# Altium schematic symbol library 4.14 - FPC连接器.SchLib: 37 symbols
Pins are listed as number, name and electrical type; pins without a type are passive.

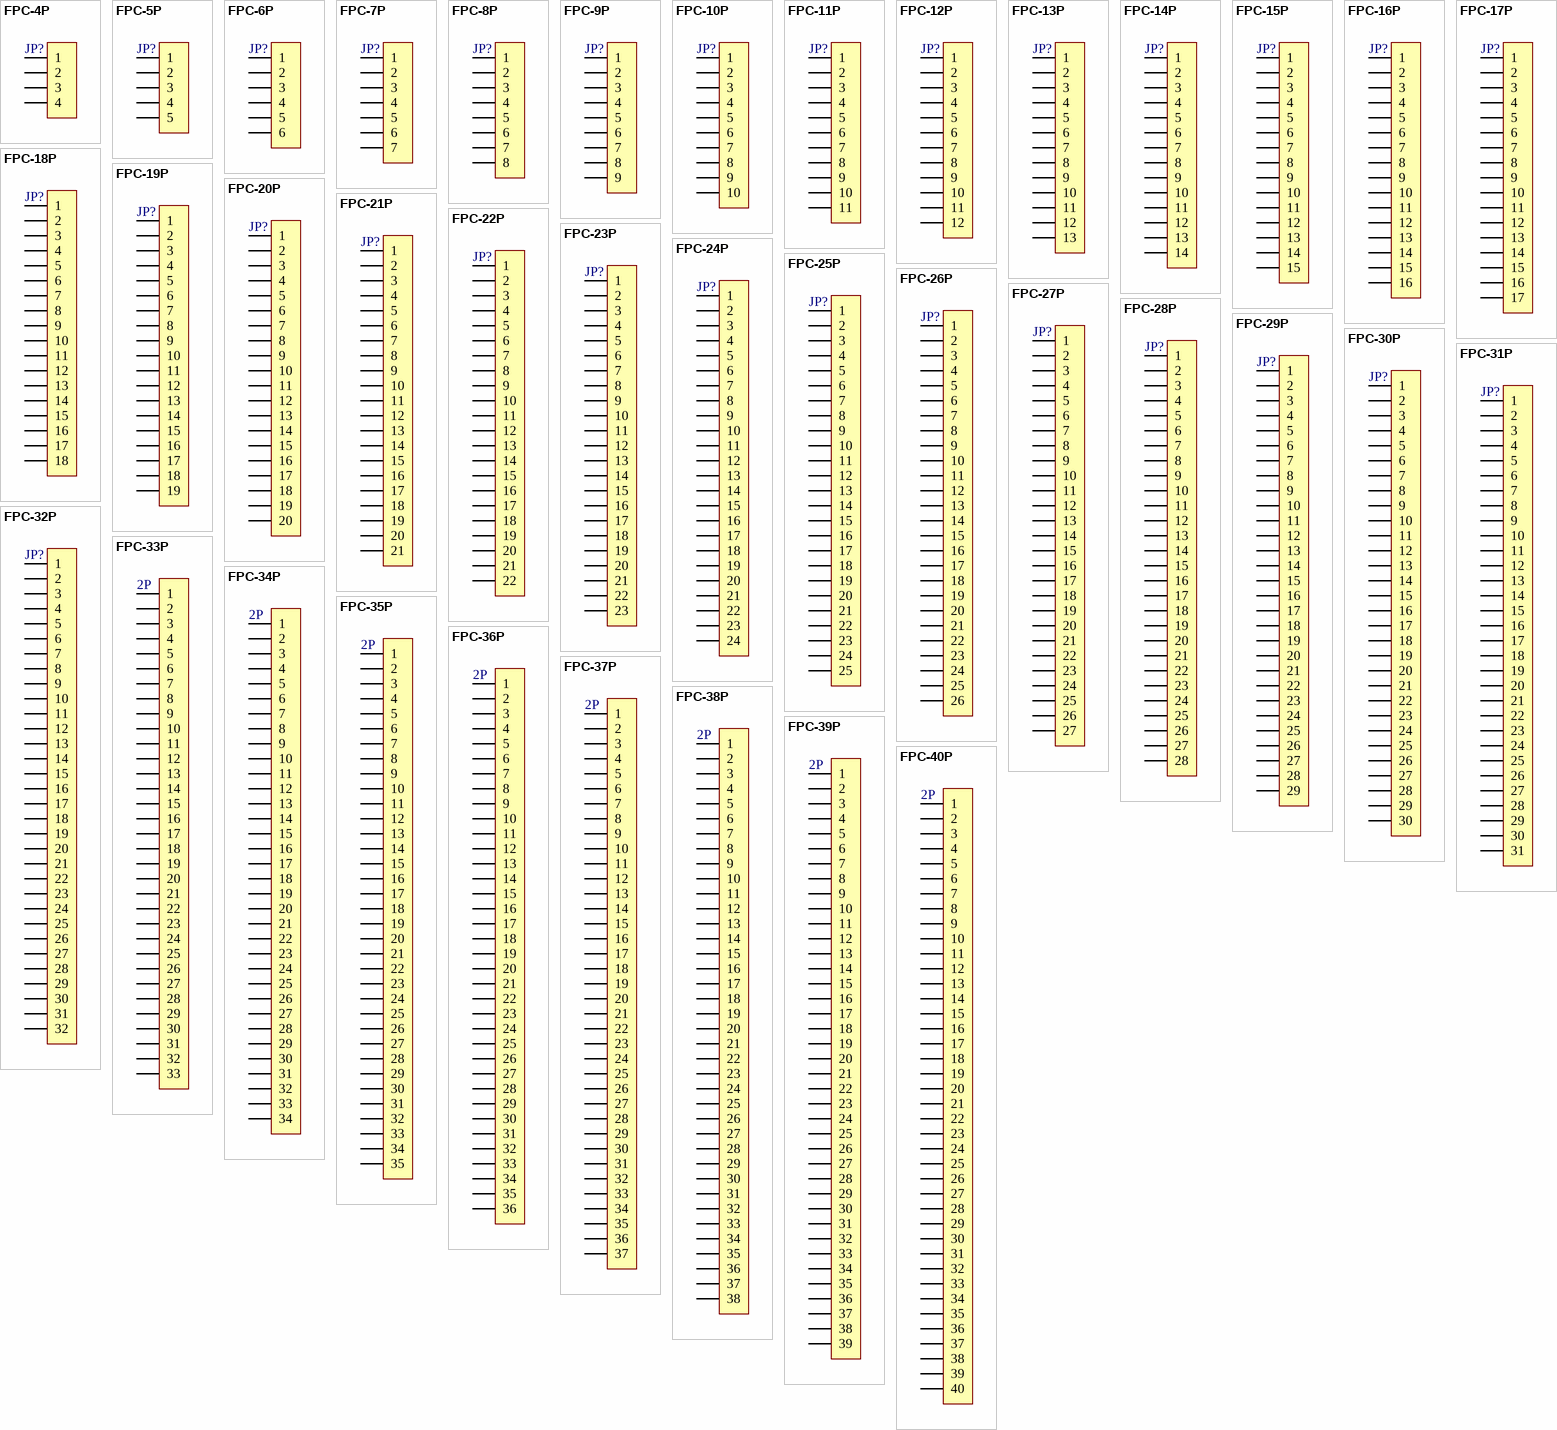
[diagram p0: symbols FPC-4P to FPC-40P]

## FPC-4P
designator JP?, comment FPC1.0-4P  (value not drawn)
FPC连接器; 版权归属: 源创客; BOM名称: FPC连接器; 学习资源: www.ooocke.com
footprint FPC1.25A-LI-4P (4脚，长：8.5mm，宽：4.5mm，高：7.3mm)
footprint FPC0.5 2H-WS-4P (长：6.2mm，宽：5.2mm，高：2mm)
footprint FPC1.0-2H-WS-4P (翻盖FPC，脚距1mm，不含脚（长8.9mm，宽5.2mm，高1.96mm）)
pins: 1, 2, 3, 4

## FPC-5P
designator JP?, comment FPC1.0-5P  (value not drawn)
FPC连接器; 版权归属: 源创客; BOM名称: FPC连接器; 学习资源: www.ooocke.com
footprint FPC1.25A-LI-5P (5脚，长：9.75mm，宽：4.5mm，高：7.3mm)
footprint FPC0.5 2H-WS-5P (长：6.7mm，宽：5.2mm，高：2mm)
footprint FPC1.0-2H-WS-5P (翻盖FPC，脚距1mm，不含脚（长9.9mm，宽5.2mm，高1.96mm）)
pins: 1, 2, 3, 4, 5

## FPC-6P
designator JP?, comment FPC1.0-6P  (value not drawn)
FPC连接器; 版权归属: 源创客; BOM名称: FPC连接器; 学习资源: www.ooocke.com
footprint FPC1.25A-LI-6P (6脚，长：11mm，宽：4.5mm，高：7.3mm)
footprint FPC0.5 2H-WS-6P (长：7.2mm，宽：5.2mm，高：2mm)
footprint FPC1.0-2H-WS-6P (翻盖FPC，脚距1mm，不含脚（长10.9mm，宽5.2mm，高1.96mm）)
pins: 1, 2, 3, 4, 5, 6

## FPC-7P
designator JP?, comment FPC1.0-7P  (value not drawn)
FPC连接器; 版权归属: 源创客; BOM名称: FPC连接器; 学习资源: www.ooocke.com
footprint FPC1.25A-LI-7P (7脚，长：12.25mm，宽：4.5mm，高：7.3mm)
footprint FPC0.5 2H-WS-7P (长：7.7mm，宽：5.2mm，高：2mm)
footprint FPC1.0-2H-WS-7P (翻盖FPC，脚距1mm，不含脚（长11.9mm，宽5.2mm，高1.96mm）)
pins: 1, 2, 3, 4, 5, 6, 7

## FPC-8P
designator JP?, comment FPC1.0-8P  (value not drawn)
FPC连接器; 版权归属: 源创客; BOM名称: FPC连接器; 学习资源: www.ooocke.com
footprint FPC1.25A-LI-8P (8脚，长：13.5mm，宽：4.5mm，高：7.3mm)
footprint FPC0.5 2H-WS-8P (长：8.2mm，宽：5.2mm，高：2mm)
footprint FPC1.0-2H-WS-8P (翻盖FPC，脚距1mm，不含脚（长12.9mm，宽5.2mm，高1.96mm）)
pins: 1, 2, 3, 4, 5, 6, 7, 8

## FPC-9P
designator JP?, comment FPC1.0-9P  (value not drawn)
FPC连接器; 版权归属: 源创客; BOM名称: FPC连接器; 学习资源: www.ooocke.com
footprint FPC1.25A-LI-9P (9脚，长：14.75mm，宽：4.5mm，高：7.3mm)
footprint FPC0.5 2H-WS-9P (长：8.7mm，宽：5.2mm，高：2mm)
footprint FPC1.0-2H-WS-9P (翻盖FPC，脚距1mm，不含脚（长13.9mm，宽5.2mm，高1.96mm）)
pins: 1, 2, 3, 4, 5, 6, 7, 8, 9

## FPC-10P
designator JP?, comment FPC1.0-10P  (value not drawn)
FPC连接器; 版权归属: 源创客; BOM名称: FPC连接器; 学习资源: www.ooocke.com
footprint FPC1.25A-LI-10P (10脚，长：16mm，宽：4.5mm，高：7.3mm)
footprint FPC0.5 2H-WS-10P (长：9.2mm，宽：5.2mm，高：2mm)
footprint FPC1.0-2H-WS-10P (翻盖FPC，脚距1mm，不含脚（长14.9mm，宽5.2mm，高1.96mm）)
pins: 1, 2, 3, 4, 5, 6, 7, 8, 9, 10

## FPC-11P
designator JP?, comment FPC1.0-11P  (value not drawn)
FPC连接器; 版权归属: 源创客; BOM名称: FPC连接器; 学习资源: www.ooocke.com
footprint FPC1.25A-LI-11P (11脚，长：17.25mm，宽：4.5mm，高：7.3mm)
footprint FPC0.5 2H-WS-11P (长：9.7mm，宽：5.2mm，高：2mm)
footprint FPC1.0-2H-WS-11P (翻盖FPC，脚距1mm，不含脚（长15.9mm，宽5.2mm，高1.96mm）)
pins: 1, 2, 3, 4, 5, 6, 7, 8, 9, 10, 11

## FPC-12P
designator JP?, comment FPC1.0-12P  (value not drawn)
FPC连接器; 版权归属: 源创客; BOM名称: FPC连接器; 学习资源: www.ooocke.com
footprint FPC1.25A-LI-12P (12脚，长：18.5mm，宽：4.5mm，高：7.3mm)
footprint FPC1.0-2H-WS-12P (翻盖FPC，脚距1mm，不含脚（长16.9mm，宽5.2mm，高1.96mm）)
footprint FPC0.5 2H-WS-12P (长：10.2mm，宽：5.2mm，高：2mm)
pins: 1, 2, 3, 4, 5, 6, 7, 8, 9, 10, 11, 12

## FPC-13P
designator JP?, comment FPC1.0-13P  (value not drawn)
FPC连接器; 版权归属: 源创客; BOM名称: FPC连接器; 学习资源: www.ooocke.com
footprint FPC1.25A-LI-13P (13脚，长：19.75mm，宽：4.5mm，高：7.3mm)
footprint FPC0.5 2H-WS-13P (长：10.7mm，宽：5.2mm，高：2mm)
footprint FPC1.0-2H-WS-13P (翻盖FPC，脚距1mm，不含脚（长17.9mm，宽5.2mm，高1.96mm）)
pins: 1, 2, 3, 4, 5, 6, 7, 8, 9, 10, 11, 12, 13

## FPC-14P
designator JP?, comment FPC1.0-14P  (value not drawn)
FPC连接器; 版权归属: 源创客; BOM名称: FPC连接器; 学习资源: www.ooocke.com
footprint FPC1.25A-LI-14P (14脚，长：21mm，宽：4.5mm，高：7.3mm)
footprint FPC0.5 2H-WS-14P (长：11.2mm，宽：5.2mm，高：2mm)
footprint FPC1.0-2H-WS-14P (翻盖FPC，脚距1mm，不含脚（长18.9mm，宽5.2mm，高1.96mm）)
pins: 1, 2, 3, 4, 5, 6, 7, 8, 9, 10, 11, 12, 13, 14

## FPC-15P
designator JP?, comment FPC1.0-15P  (value not drawn)
FPC连接器; 版权归属: 源创客; BOM名称: FPC连接器; 学习资源: www.ooocke.com
footprint FPC1.25A-LI-15P (15脚，长：22.4mm，宽：4.5mm，高：7.3mm)
footprint FPC0.5 2H-WS-15P (长：11.7mm，宽：5.2mm，高：2mm)
footprint FPC1.0-2H-WS-15P (翻盖FPC，脚距1mm，不含脚（长19.9mm，宽5.2mm，高1.96mm）)
pins: 1, 2, 3, 4, 5, 6, 7, 8, 9, 10, 11, 12, 13, 14, 15

## FPC-16P
designator JP?, comment FPC1.0-16P  (value not drawn)
FPC连接器; 版权归属: 源创客; BOM名称: FPC连接器; 学习资源: www.ooocke.com
footprint FPC1.25A-LI-16P (16脚，长：23.5mm，宽：4.5mm，高：7.3mm)
footprint FPC0.5 2H-WS-16P (长：12.2mm，宽：5.2mm，高：2mm)
footprint FPC1.0-2H-WS-16P (翻盖FPC，脚距1mm，不含脚（长20.9mm，宽5.2mm，高1.96mm）)
pins: 1, 2, 3, 4, 5, 6, 7, 8, 9, 10, 11, 12, 13, 14, 15, 16

## FPC-17P
designator JP?, comment FPC1.0-17P  (value not drawn)
FPC连接器; 版权归属: 源创客; BOM名称: FPC连接器; 学习资源: www.ooocke.com
footprint FPC1.25A-LI-17P (17脚，长：24.75mm，宽：4.5mm，高：7.3mm)
footprint FPC0.5 2H-WS-17P (长：12.7mm，宽：5.2mm，高：2mm)
footprint FPC1.0-2H-WS-17P (翻盖FPC，脚距1mm，不含脚（长21.9mm，宽5.2mm，高1.96mm）)
pins: 1, 2, 3, 4, 5, 6, 7, 8, 9, 10, 11, 12, 13, 14, 15, 16, 17

## FPC-18P
designator JP?, comment FPC1.0-18P  (value not drawn)
FPC连接器; 版权归属: 源创客; BOM名称: FPC连接器; 学习资源: www.ooocke.com
footprint FPC1.25A-LI-18P (18脚，长：26mm，宽：4.5mm，高：7.3mm)
footprint FPC0.5 2H-WS-18P (长：13.2mm，宽：5.2mm，高：2mm)
footprint FPC1.0-2H-WS-18P (翻盖FPC，脚距1mm，不含脚（长22.9mm，宽5.2mm，高1.96mm）)
pins: 1, 2, 3, 4, 5, 6, 7, 8, 9, 10, 11, 12, 13, 14, 15, 16, 17, 18

## FPC-19P
designator JP?, comment FPC1.0-19P  (value not drawn)
FPC连接器; 版权归属: 源创客; BOM名称: FPC连接器; 学习资源: www.ooocke.com
footprint FPC1.25A-LI-19P (19脚，长：27.25mm，宽：4.5mm，高：7.3mm)
footprint FPC0.5 2H-WS-19P (长：13.7mm，宽：5.2mm，高：2mm)
footprint FPC1.0-2H-WS-19P (翻盖FPC，脚距1mm，不含脚（长23.9mm，宽5.2mm，高1.96mm）)
pins: 1, 2, 3, 4, 5, 6, 7, 8, 9, 10, 11, 12, 13, 14, 15, 16, 17, 18, 19

## FPC-20P
designator JP?, comment FPC1.0-20P  (value not drawn)
FPC连接器; 版权归属: 源创客; BOM名称: FPC连接器; 学习资源: www.ooocke.com
footprint FPC1.25A-LI-20P (20脚，长：28.5mm，宽：4.5mm，高：7.3mm)
footprint FPC0.5 2H-WS-20P (长：14.2mm，宽：5.2mm，高：2mm)
footprint FPC1.0-2H-WS-20P (翻盖FPC，脚距1mm，不含脚（长24.9mm，宽5.2mm，高1.96mm）)
pins: 1, 2, 3, 4, 5, 6, 7, 8, 9, 10, 11, 12, 13, 14, 15, 16, 17, 18, 19, 20

## FPC-21P
designator JP?, comment FPC1.0-21P  (value not drawn)
FPC连接器; 版权归属: 源创客; BOM名称: FPC连接器; 学习资源: www.ooocke.com
footprint FPC1.25A-LI-21P (21脚，长：29.9mm，宽：4.5mm，高：7.3mm)
footprint FPC0.5 2H-WS-21P (长：14.7mm，宽：5.2mm，高：2mm)
footprint FPC1.0-2H-WS-21P (翻盖FPC，脚距1mm，不含脚（长25.9mm，宽5.2mm，高1.96mm）)
pins: 1, 2, 3, 4, 5, 6, 7, 8, 9, 10, 11, 12, 13, 14, 15, 16, 17, 18, 19, 20, 21

## FPC-22P
designator JP?, comment FPC1.0-22P  (value not drawn)
FPC连接器; 版权归属: 源创客; BOM名称: FPC连接器; 学习资源: www.ooocke.com
footprint FPC1.25A-LI-22P (22脚，长：31mm，宽：4.5mm，高：7.3mm)
footprint FPC0.5 2H-WS-22P (长：15.2mm，宽：5.2mm，高：2mm)
footprint FPC1.0-2H-WS-22P (翻盖FPC，脚距1mm，不含脚（长26.9mm，宽5.2mm，高1.96mm）)
pins: 1, 2, 3, 4, 5, 6, 7, 8, 9, 10, 11, 12, 13, 14, 15, 16, 17, 18, 19, 20, 21, 22

## FPC-23P
designator JP?, comment FPC1.0-23P  (value not drawn)
FPC连接器; 版权归属: 源创客; BOM名称: FPC连接器; 学习资源: www.ooocke.com
footprint FPC1.25A-LI-23P (23脚，长：32.25mm，宽：4.5mm，高：7.3mm)
footprint FPC0.5 2H-WS-23P (长：15.7mm，宽：5.2mm，高：2mm)
footprint FPC1.0-2H-WS-23P (翻盖FPC，脚距1mm，不含脚（长27.9mm，宽5.2mm，高1.96mm）)
pins: 1, 2, 3, 4, 5, 6, 7, 8, 9, 10, 11, 12, 13, 14, 15, 16, 17, 18, 19, 20, 21, 22, 23

## FPC-24P
designator JP?, comment FPC1.0-24P  (value not drawn)
FPC连接器; 版权归属: 源创客; BOM名称: FPC连接器; 学习资源: www.ooocke.com
footprint FPC1.25A-LI-24P (24脚，长：33.5mm，宽：4.5mm，高：7.3mm)
footprint FPC0.5 2H-WS-24P (长：16.2mm，宽：5.2mm，高：2mm)
footprint FPC1.0-2H-WS-24P (翻盖FPC，脚距1mm，不含脚（长28.9mm，宽5.2mm，高1.96mm）)
pins: 1, 2, 3, 4, 5, 6, 7, 8, 9, 10, 11, 12, 13, 14, 15, 16, 17, 18, 19, 20, 21, 22, 23, 24

## FPC-25P
designator JP?, comment FPC1.0-25P  (value not drawn)
FPC连接器; 版权归属: 源创客; BOM名称: FPC连接器; 学习资源: www.ooocke.com
footprint FPC1.25A-LI-25P (25脚，长：34.75mm，宽：4.5mm，高：7.3mm)
footprint FPC0.5 2H-WS-25P (长：16.7mm，宽：5.2mm，高：2mm)
footprint FPC1.0-2H-WS-25P (翻盖FPC，脚距1mm，不含脚（长29.9mm，宽5.2mm，高1.96mm）)
pins: 1, 2, 3, 4, 5, 6, 7, 8, 9, 10, 11, 12, 13, 14, 15, 16, 17, 18, 19, 20, 21, 22, 23, 24, 25

## FPC-26P
designator JP?, comment FPC1.0-26P  (value not drawn)
FPC连接器; 版权归属: 源创客; BOM名称: FPC连接器; 学习资源: www.ooocke.com
footprint FPC1.25A-LI-26P (26脚，长：36mm，宽：4.5mm，高：7.3mm)
footprint FPC0.5 2H-WS-26P (长：17.2mm，宽：5.2mm，高：2mm)
footprint FPC1.0-2H-WS-26P (翻盖FPC，脚距1mm，不含脚（长30.9mm，宽5.2mm，高1.96mm）)
pins: 1, 2, 3, 4, 5, 6, 7, 8, 9, 10, 11, 12, 13, 14, 15, 16, 17, 18, 19, 20, 21, 22, 23, 24, 25, 26

## FPC-27P
designator JP?, comment FPC1.0-27P  (value not drawn)
FPC连接器; 版权归属: 源创客; BOM名称: FPC连接器; 学习资源: www.ooocke.com
footprint FPC1.25A-LI-27P (27脚，长：37.25mm，宽：4.5mm，高：7.3mm)
footprint FPC0.5 2H-WS-27P (长：17.7mm，宽：5.2mm，高：2mm)
footprint FPC1.0-2H-WS-27P (翻盖FPC，脚距1mm，不含脚（长31.9mm，宽5.2mm，高1.96mm）)
pins: 1, 2, 3, 4, 5, 6, 7, 8, 9, 10, 11, 12, 13, 14, 15, 16, 17, 18, 19, 20, 21, 22, 23, 24, 25, 26, 27

## FPC-28P
designator JP?, comment FPC1.0-28P  (value not drawn)
FPC连接器; 版权归属: 源创客; BOM名称: FPC连接器; 学习资源: www.ooocke.com
footprint FPC1.25A-LI-28P (28脚，长：38.7mm，宽：4.5mm，高：7.3mm)
footprint FPC0.5 2H-WS-28P (长：18.2mm，宽：5.2mm，高：2mm)
footprint FPC1.0-2H-WS-28P (翻盖FPC，脚距1mm，不含脚（长32.9mm，宽5.2mm，高1.96mm）)
pins: 1, 2, 3, 4, 5, 6, 7, 8, 9, 10, 11, 12, 13, 14, 15, 16, 17, 18, 19, 20, 21, 22, 23, 24, 25, 26, 27, 28

## FPC-29P
designator JP?, comment FPC1.0-29P  (value not drawn)
FPC连接器; 版权归属: 源创客; BOM名称: FPC连接器; 学习资源: www.ooocke.com
footprint FPC1.25A-LI-29P (29脚，长：39.75mm，宽：4.5mm，高：7.3mm)
footprint FPC0.5 2H-WS-29P (长：18.7mm，宽：5.2mm，高：2mm)
footprint FPC1.0-2H-WS-29P (翻盖FPC，脚距1mm，不含脚（长33.9mm，宽5.2mm，高1.96mm）)
pins: 1, 2, 3, 4, 5, 6, 7, 8, 9, 10, 11, 12, 13, 14, 15, 16, 17, 18, 19, 20, 21, 22, 23, 24, 25, 26, 27, 28, 29

## FPC-30P
designator JP?, comment FPC1.0-30P  (value not drawn)
FPC连接器; 版权归属: 源创客; BOM名称: FPC连接器; 学习资源: www.ooocke.com
footprint FPC1.25A-LI-30P (Footprint not found)
footprint FPC0.5 2H-WS-30P (长：19.2mm，宽：5.2mm，高：2mm)
footprint FPC1.0-2H-WS-30P (翻盖FPC，脚距1mm，不含脚（长34.9mm，宽5.2mm，高1.96mm）)
pins: 1, 2, 3, 4, 5, 6, 7, 8, 9, 10, 11, 12, 13, 14, 15, 16, 17, 18, 19, 20, 21, 22, 23, 24, 25, 26, 27, 28, 29, 30

## FPC-31P
designator JP?, comment FPC1.0-31P  (value not drawn)
FPC连接器; 版权归属: 源创客; BOM名称: FPC连接器; 学习资源: www.ooocke.com
footprint FPC1.25A-LI-31P (31脚，长：42.25mm，宽：4.5mm，高：7.3mm)
footprint FPC0.5 2H-WS-31P (长：19.7mm，宽：5.2mm，高：2mm)
pins: 1, 2, 3, 4, 5, 6, 7, 8, 9, 10, 11, 12, 13, 14, 15, 16, 17, 18, 19, 20, 21, 22, 23, 24, 25, 26, 27, 28, 29, 30, 31

## FPC-32P
designator JP?, comment FPC1.0-32P  (value not drawn)
FPC连接器; 版权归属: 源创客; BOM名称: FPC连接器; 学习资源: www.ooocke.com
footprint FPC1.25A-LI-32P (32脚，长：43.5mm，宽：4.5mm，高：7.3mm)
footprint FPC0.5 2H-WS-32P (长：20.2mm，宽：5.2mm，高：2mm)
pins: 1, 2, 3, 4, 5, 6, 7, 8, 9, 10, 11, 12, 13, 14, 15, 16, 17, 18, 19, 20, 21, 22, 23, 24, 25, 26, 27, 28, 29, 30, 31, 32

## FPC-33P
designator 2P, comment FPC1.0-33P  (value not drawn)
FPC连接器; 版权归属: 源创客; BOM名称: FPC连接器; 学习资源: www.ooocke.com
footprint FPC1.25A-LI-33P (33脚，长：44.75mm，宽：4.5mm，高：7.3mm)
footprint FPC0.5 2H-WS-33P (长：20.7mm，宽：5.2mm，高：2mm)
pins: 1, 2, 3, 4, 5, 6, 7, 8, 9, 10, 11, 12, 13, 14, 15, 16, 17, 18, 19, 20, 21, 22, 23, 24, 25, 26, 27, 28, 29, 30, 31, 32, 33

## FPC-34P
designator 2P, comment FPC1.0-34P  (value not drawn)
FPC连接器; 版权归属: 源创客; BOM名称: FPC连接器; 学习资源: www.ooocke.com
footprint FPC1.25A-LI-34P (34脚，长：46mm，宽：4.5mm，高：7.3mm)
footprint FPC0.5 2H-WS-34P (长：21.2mm，宽：5.2mm，高：2mm)
pins: 1, 2, 3, 4, 5, 6, 7, 8, 9, 10, 11, 12, 13, 14, 15, 16, 17, 18, 19, 20, 21, 22, 23, 24, 25, 26, 27, 28, 29, 30, 31, 32, 33, 34

## FPC-35P
designator 2P, comment FPC1.0-35P  (value not drawn)
FPC连接器; 版权归属: 源创客; BOM名称: FPC连接器; 学习资源: www.ooocke.com
footprint FPC1.25A-LI-35P (35脚，长：47.25mm，宽：4.5mm，高：7.3mm)
footprint FPC0.5 2H-WS-35P (长：21.7mm，宽：5.2mm，高：2mm)
pins: 1, 2, 3, 4, 5, 6, 7, 8, 9, 10, 11, 12, 13, 14, 15, 16, 17, 18, 19, 20, 21, 22, 23, 24, 25, 26, 27, 28, 29, 30, 31, 32, 33, 34, 35

## FPC-36P
designator 2P, comment FPC1.0-36P  (value not drawn)
FPC连接器; 版权归属: 源创客; BOM名称: FPC连接器; 学习资源: www.ooocke.com
footprint FPC1.25A-LI-36P (36脚，长：48.5mm，宽：4.5mm，高：7.3mm)
footprint FPC0.5 2H-WS-36P (长：22.2mm，宽：5.2mm，高：2mm)
pins: 1, 2, 3, 4, 5, 6, 7, 8, 9, 10, 11, 12, 13, 14, 15, 16, 17, 18, 19, 20, 21, 22, 23, 24, 25, 26, 27, 28, 29, 30, 31, 32, 33, 34, 35, 36

## FPC-37P
designator 2P, comment FPC1.0-37P  (value not drawn)
FPC连接器; 版权归属: 源创客; BOM名称: FPC连接器; 学习资源: www.ooocke.com
footprint FPC1.25A-LI-37P (37脚，长：48.75mm，宽：4.5mm，高：7.3mm)
footprint FPC0.5 2H-WS-37P (长：22.7mm，宽：5.2mm，高：2mm)
pins: 1, 2, 3, 4, 5, 6, 7, 8, 9, 10, 11, 12, 13, 14, 15, 16, 17, 18, 19, 20, 21, 22, 23, 24, 25, 26, 27, 28, 29, 30, 31, 32, 33, 34, 35, 36, 37

## FPC-38P
designator 2P, comment FPC1.0-38P  (value not drawn)
FPC连接器; 版权归属: 源创客; BOM名称: FPC连接器; 学习资源: www.ooocke.com
footprint FPC1.25A-LI-38P (38脚，长：51mm，宽：4.5mm，高：7.3mm)
footprint FPC0.5 2H-WS-38P (长：23.2mm，宽：5.2mm，高：2mm)
pins: 1, 2, 3, 4, 5, 6, 7, 8, 9, 10, 11, 12, 13, 14, 15, 16, 17, 18, 19, 20, 21, 22, 23, 24, 25, 26, 27, 28, 29, 30, 31, 32, 33, 34, 35, 36, 37, 38

## FPC-39P
designator 2P, comment FPC1.0-39P  (value not drawn)
FPC连接器; 版权归属: 源创客; BOM名称: FPC连接器; 学习资源: www.ooocke.com
footprint FPC1.25A-LI-39P (39脚，长：52.5mm，宽：4.5mm，高：7.3mm)
footprint FPC0.5 2H-WS-39P (长：23.7mm，宽：5.2mm，高：2mm)
pins: 1, 2, 3, 4, 5, 6, 7, 8, 9, 10, 11, 12, 13, 14, 15, 16, 17, 18, 19, 20, 21, 22, 23, 24, 25, 26, 27, 28, 29, 30, 31, 32, 33, 34, 35, 36, 37, 38, 39

## FPC-40P
designator 2P, comment FPC1.0-40P  (value not drawn)
FPC连接器; 版权归属: 源创客; BOM名称: FPC连接器; 学习资源: www.ooocke.com
footprint FPC1.25A-LI-40P (40脚，长：53.5mm，宽：4.5mm，高：7.3mm)
footprint FPC0.5 2H-WS-40P (长：24.2mm，宽：5.2mm，高：2mm)
pins: 1, 2, 3, 4, 5, 6, 7, 8, 9, 10, 11, 12, 13, 14, 15, 16, 17, 18, 19, 20, 21, 22, 23, 24, 25, 26, 27, 28, 29, 30, 31, 32, 33, 34, 35, 36, 37, 38, 39, 40